# Altium integrated library Crystals.IntLib: 6 symbols
Pins are listed as number, name and electrical type; pins without a type are passive.

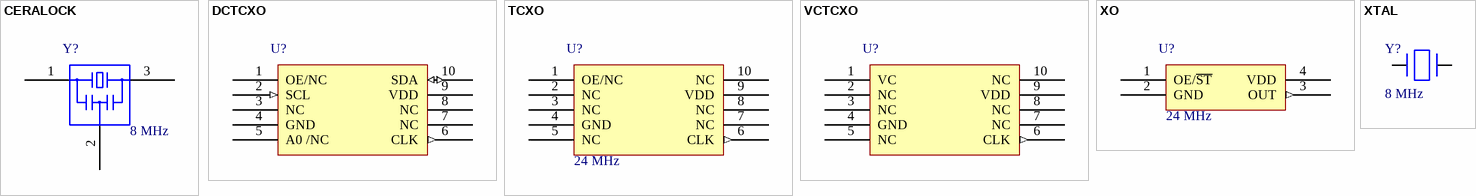
[diagram p0: symbols CERALOCK to XTAL]

## CERALOCK
designator Y?  Frequency: 8 MHz
Ceramic resonators
footprint SMD_3213_3P
footprint SMD_4520_3P
pins: 1 Input, 2 GND, 3 Output

## DCTCXO
designator U?
SiTime Elite Platform™ Super-TCXO; ComponentLink1Description: Manufacturer URL; ComponentLink1URL: https://www.sitime.com; Manufacturer: SiTime
footprint QFN_5032_10P
pins: 1 OE/NC, 2 SCL (in), 3 NC, 4 GND, 5 A0 /NC, 6 CLK (out), 7 NC, 8 NC, 9 VDD (power), 10 SDA (io)

## TCXO
designator U?  Frequency: 24 MHz
SiTime Elite Platform™ Super-TCXO; ComponentLink1Description: Manufacturer URL; ComponentLink1URL: https://www.sitime.com; Manufacturer: SiTime
footprint QFN_5032_10P
pins: 1 OE/NC, 2 NC, 3 NC, 4 GND, 5 NC, 6 CLK (out), 7 NC, 8 NC, 9 VDD (power), 10 NC

## VCTCXO
designator U?
SiTime Elite Platform™ Super-TCXO; ComponentLink1Description: Manufacturer URL; ComponentLink1URL: https://www.sitime.com; Manufacturer: SiTime
footprint QFN_5032_10P
pins: 1 VC, 2 NC, 3 NC, 4 GND, 5 NC, 6 CLK (out), 7 NC, 8 NC, 9 VDD (power), 10 NC

## XO
designator U?  Frequency: 24 MHz
SiTime Ultra Performance Oscillator; Manufacturer: SiTime; ComponentLink1Description: Manufacturer URL; ComponentLink1URL: https://www.sitime.com; ComponentLink2Description: Datasheet; ComponentLink2URL: https://www.sitime.com/datasheet/SiT8208
footprint QFN_2016_4P
footprint QFN_2520_4P
footprint QFN_3225_4P
footprint QFN_5032_4P
footprint QFN_7050_4P
pins: 1 OE/~{ST}, 2 GND, 3 OUT (out), 4 VDD (power)

## XTAL
designator Y?  Frequency: 8 MHz
crystal oscillator
footprint HC-49
footprint HC-49-L
footprint HC-49-M
footprint SMD_3215_2P
footprint SMD_5032_2P
pins: 1, 2